# Altium footprint library pcb_v1.PcbLib: 39 footprints (part 3 of 3)
Each footprint in its own frame and in the unit in brackets; x right, y up, seen from the top. Pads: shape width x height; smd on the part's side, far side on the other; paste and mask are expansions set on the pad; w line width, h text height; cw(c..) or ccw(c..) is an arc to the next point about the centre after c.
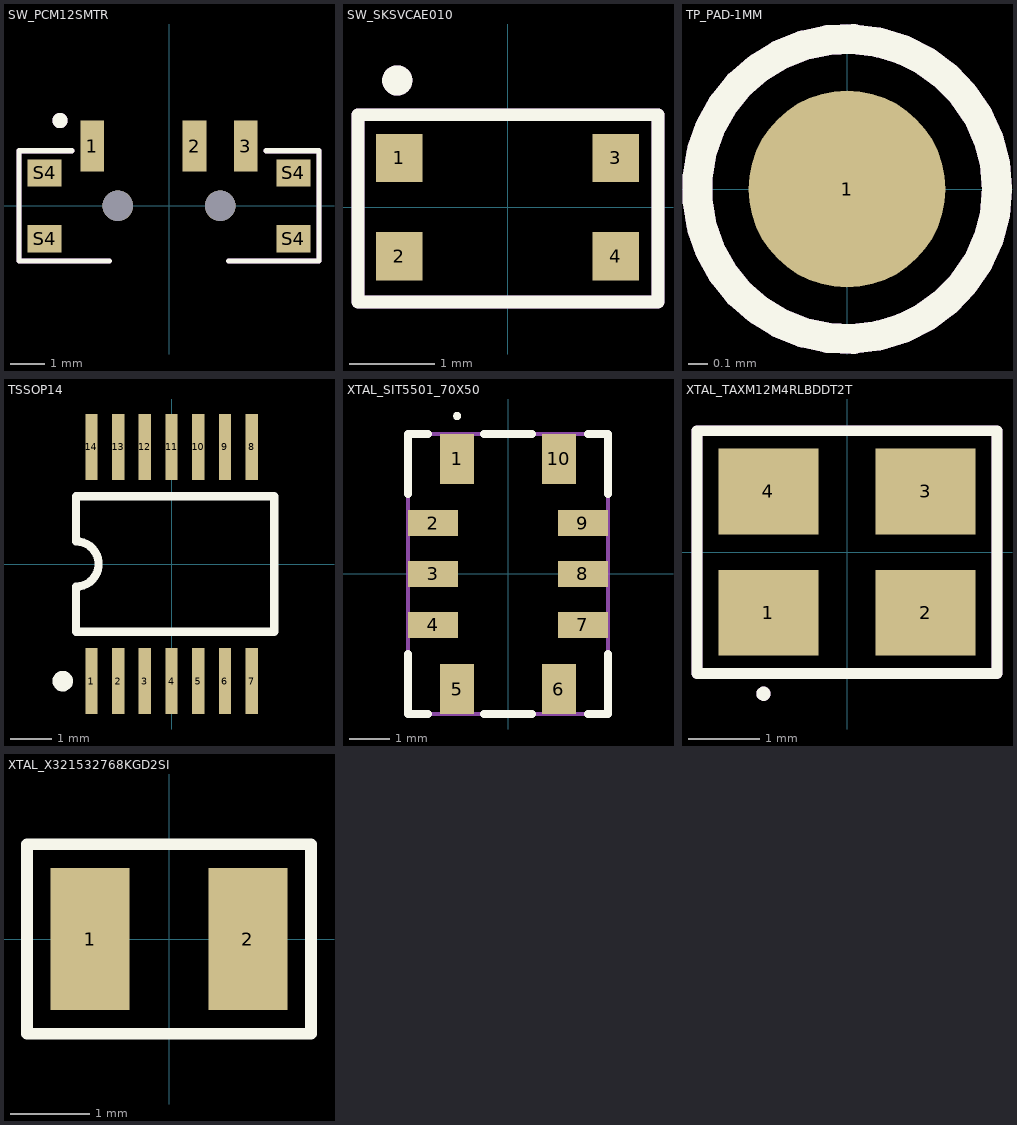
[diagram p2: the footprints below, top view; thin cyan lines are the x and y axes]

## SW_PCM12SMTR [mm]
pads (9):
  rect 0.7x1.5 smd: 1(-2.25,1.75) 2(0.75,1.75) 3(2.25,1.75)
  rect 1x0.8 smd: S4(-3.65,-0.965) S4(-3.65,0.965) S4(3.65,-0.965) S4(3.65,0.965)
  round 0.9 hole 0.9 unplated: ""(-1.5,0) ""(1.5,0)
Top Overlay:
  circle w0.25: c-3.2,2.5 r0.1
  lines w0.15: -2.85,1.615 -4.4,1.615 -4.4,-1.615 -1.75,-1.615 ; 1.75,-1.615 4.4,-1.615 4.4,1.615 2.85,1.615
Mechanical 13:
  circle w0.25: c-3.2,2.5 r0.1
  lines w0.15: -2.85,1.615 -4.4,1.615 -4.4,-1.615 -1.75,-1.615 ; 1.75,-1.615 4.4,-1.615 4.4,1.615 2.85,1.615
Mechanical 15:
  circle w0.25: c-3.2,2.5 r0.1
  lines w0.15: -2.85,1.615 -4.4,1.615 -4.4,-1.615 -1.75,-1.615 ; 1.75,-1.615 4.4,-1.615 4.4,1.615 2.85,1.615
3D body "User Library-pcm12smtr.STEP": height 1.4, standoff -0.5, extent -3.681,-2.345 3.673,2.23

## SW_SKSVCAE010 [mm]
pads (4):
  rect 0.55x0.57 smd: 1(-1.275,0.58) 2(-1.275,-0.58) 3(1.275,0.58) 4(1.275,-0.58)
Top Overlay:
  circle w0.254: c-1.3,1.494 r0.051
  lines w0.15: -1.763,-1.116 -1.763,1.088 1.773,1.088 1.773,-1.116 -1.763,-1.116
Mechanical 13:
  circle w0.254: c-1.3,1.494 r0.051
  lines w0.15: -1.763,-1.116 -1.763,1.088 1.773,1.088 1.773,-1.116 -1.763,-1.116
Mechanical 15:
  circle w0.254: c-1.3,1.494 r0.051
  lines w0.15: -1.763,-1.116 -1.763,1.088 1.773,1.088 1.773,-1.116 -1.763,-1.116
3D body: height 0.5, standoff 0, extent -1.516,-0.988 1.506,0.98

## TP_PAD-1MM [mm]
pads (1):
  round 1 smd mask+0: 1(0,0)
Top Overlay:
  circle w0.152: c0,0 r0.762
Mechanical 13:
  circle w0.152: c0,0 r0.762
  text ".Designator" at 0,0 h1
Mechanical 15:
  circle w0.152: c0,0 r0.762

## TSSOP14 [mm]
pads (14):
  rect 0.3x1.6 smd: 1(-1.95,-2.85) 2(-1.3,-2.85) 3(-0.65,-2.85) 4(0,-2.85) 5(0.65,-2.85) 6(1.3,-2.85) 7(1.95,-2.85) 8(1.95,2.85) 9(1.3,2.85) 10(0.65,2.85) 11(0,2.85) 12(-0.65,2.85) 13(-1.3,2.85) 14(-1.95,2.85)
Top Overlay:
  circle w0.25: c-2.65,-2.85 r0.125
  lines w0.2: -2.325,-1.65 2.499,-1.65 2.499,1.65 -2.325,1.65 -2.325,0.55 cw(c-2.325,0) -2.325,-0.55 -2.325,-1.65
3D body "74LV04PW,118.STEP": height 1.1, standoff 0, extent -2.5,-3.2 2.5,3.2

## XTAL_SIT5501_70X50 [mm]
pads (10):
  rect 0.85x1.25 smd: 1(-1.27,2.875) 5(-1.27,-2.875) 6(1.27,-2.875) 10(1.27,2.875)
  rect 1.25x0.65 smd: 2(-1.875,1.27) 3(-1.875,0) 4(-1.875,-1.27) 7(1.875,-1.27) 8(1.875,0) 9(1.875,1.27)
Top Overlay:
  lines w0.1: -1.27,3.9 ccw(c-1.27,3.95) -1.27,4 ccw(c-1.27,3.95) -1.27,3.9
  lines w0.2: -2.5,-2 -2.5,-3.5 -2,-3.5 ; -2.5,2 -2.5,3.5 -2,3.5 ; -0.6,-3.5 0.6,-3.5 ; -0.6,3.5 0.6,3.5 ; 2,-3.5 2.5,-3.5 2.5,-2 ; 2,3.5 2.5,3.5 2.5,2
Mechanical 15:
  lines w0.1: -2.5,-3.5 -2.5,3.5 2.5,3.5 2.5,-3.5 -2.5,-3.5
3D body "SiT5501A-WT-0001.stp": height 2.06, standoff 0.01, extent -2.5,-3.5 2.5,3.5

## XTAL_TAXM12M4RLBDDT2T [mm]
pads (4):
  rect 1.4x1.2 smd: 1(-1.1,-0.85) 2(1.1,-0.85) 3(1.1,0.85) 4(-1.1,0.85)
Top Overlay:
  circle w0.1: c-1.169,-1.982 r0.05
  lines w0.15: -2.1,-1.7 -2.1,1.7 2.1,1.7 2.1,-1.7 -2.1,-1.7
Mechanical 13:
  circle w0.1: c-1.169,-1.982 r0.05
  lines w0.15: -2.1,-1.7 -2.1,1.7 2.1,1.7 2.1,-1.7 -2.1,-1.7
Mechanical 15:
  circle w0.1: c-1.169,-1.982 r0.05
  lines w0.15: -2.1,-1.7 -2.1,1.7 2.1,1.7 2.1,-1.7 -2.1,-1.7
3D body: height 0.8, standoff 0, extent -1.65,-1.15 1.65,1.25

## XTAL_X321532768KGD2SI [mm]
pads (2):
  rect 1x1.8 smd: 1(-1,0) 2(1,0)
Top Overlay:
  lines w0.15: -1.8,-1.2 1.8,-1.2 1.8,1.2 -1.8,1.2 -1.8,-1.2
3D body: height 0.75, standoff 0, extent -1.6,-0.75 1.6,0.75